# Altium schematic symbol library Schlib1.SchLib: 3 symbols
Pins are listed as number, name and electrical type; pins without a type are passive.

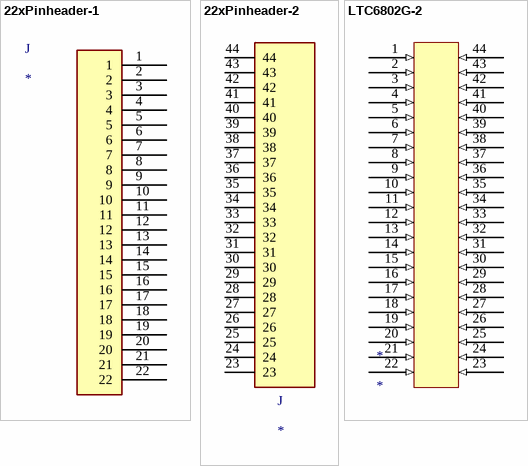
[diagram p0: symbols 22xPinheader-1 to LTC6802G-2]

## 22xPinheader-1
designator J
Pin header; pin strips; male; PIN: 50; straight; 2.54mm; THT; 1x50; MF: TE Connectivity; MP: 5-825433-0; Package: None; Value: *; TE_purchase_URL: https://www.te.com/usa-en/product-5-825433-0.html?te_bu=Cor&te_type=disp&te_campaign=seda_glo_cor-seda-global-disp-prtnr-fy19-seda-model-bom-cta_sma-317_1&elqCampaignId=32493; Price: None; SnapEDA_Link: https://www.snapeda.com/parts/5-825433-0/TE%20Connectivity%20AMP%20Connectors/view-part/499889/?ref=snap; Availability: Unavailable; EU_RoHS_Compliance: Compliant
footprint 22XHEADER1
pins: 1, 2, 3, 4, 5, 6, 7, 8, 9, 10, 11, 12, 13, 14, 15, 16, 17, 18, 19, 20, 21, 22

## 22xPinheader-2
designator J
Pin header; pin strips; male; PIN: 50; straight; 2.54mm; THT; 1x50; MF: TE Connectivity; MP: 5-825433-0; Package: None; Value: *; TE_purchase_URL: https://www.te.com/usa-en/product-5-825433-0.html?te_bu=Cor&te_type=disp&te_campaign=seda_glo_cor-seda-global-disp-prtnr-fy19-seda-model-bom-cta_sma-317_1&elqCampaignId=32493; Price: None; SnapEDA_Link: https://www.snapeda.com/parts/5-825433-0/TE%20Connectivity%20AMP%20Connectors/view-part/499889/?ref=snap; Availability: Unavailable; EU_RoHS_Compliance: Compliant
footprint 22xHEADER-2
pins: 23, 24, 25, 26, 27, 28, 29, 30, 31, 32, 33, 34, 35, 36, 37, 38, 39, 40, 41, 42, 43, 44

## LTC6802G-2
designator *
footprint LTC6802
pins: 1 (in), 2 (in), 3 (in), 4 (in), 5 (in), 6 (in), 7 (in), 8 (in), 9 (in), 10 (in), 11 (in), 12 (in), 13 (in), 14 (in), 15 (in), 16 (in), 17 (in), 18 (in), 19 (in), 20 (in), 21 (in), 22 (in), 23 (in), 24 (in), 25 (in), 26 (in), 27 (in), 28 (in), 29 (in), 30 (in), 31 (in), 32 (in), 33 (in), 34 (in), 35 (in), 36 (in), 37 (in), 38 (in), 39 (in), 40 (in), 41 (in), 42 (in), 43 (in), 44 (in)